# Altium footprint library Moto Footprint Lib.PcbLib: 1 footprints
Each footprint in its own frame and in the unit in brackets; x right, y up, seen from the top. Pads: shape width x height; smd on the part's side, far side on the other; paste and mask are expansions set on the pad; w line width, h text height; cw(c..) or ccw(c..) is an arc to the next point about the centre after c.
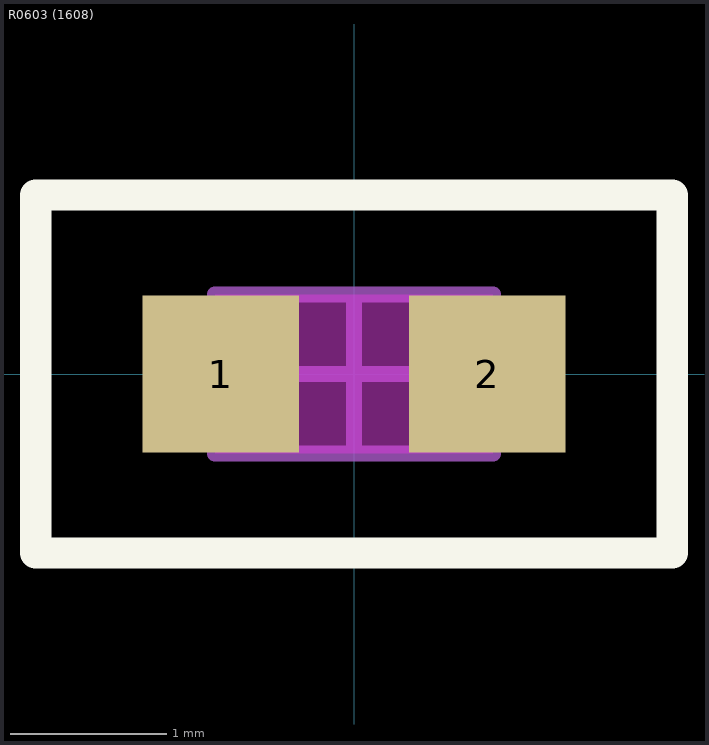
[diagram p0: the footprint, top view; thin cyan lines are the x and y axes]

## R0603 (1608) [mm]
pads (2):
  rect 1x1 smd: 1(-0.85,0) 2(0.85,0)
Top Overlay:
  lines w0.2: -2.032,-1.143 2.032,-1.143 2.032,1.143 -2.032,1.143 -2.032,-0.46 -2.032,-1.143
  text ".Designator" at -2.159,1.397 h1.27
Keep-Out Layer:
  rectangle: -0.889,-0.508 0.889,0.508
Mechanical 1:
  lines w0.1: 0.889,-0.508 0.889,0.508 ; 0.889,-0.508 -0.889,-0.508 -0.889,0.508 0.889,0.508 ; 0.889,-0.508 0.889,0.508
Mechanical 15:
  lines w0.1: -0.508,0 0.508,0 ; 0,-0.508 0,0.508